# Altium schematic symbol library F280041.SchLib: 3 symbols
Pins are listed as number, name and electrical type; pins without a type are passive.

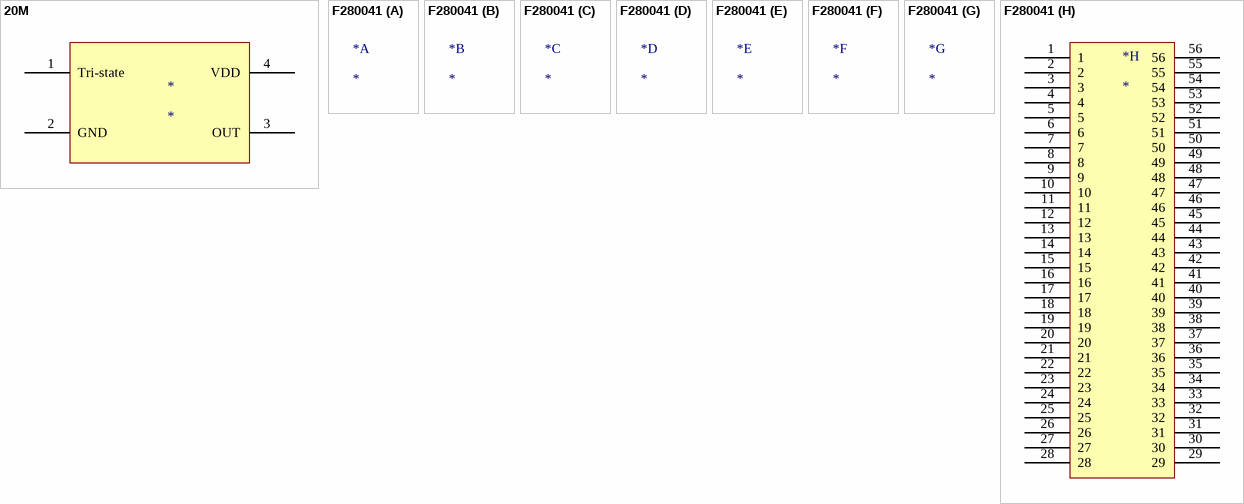
[diagram p0: symbols 20M to F280041]

## 20M
designator *
pins: 1 Tri-state, 2 GND, 3 OUT, 4 VDD

## F280041
designator *
F280041
part H pins: 1, 2, 3, 4, 5, 6, 7, 8, 9, 10, 11, 12, 13, 14, 15, 16, 17, 18, 19, 20, 21, 22, 23, 24, 25, 26, 27, 28, 29, 30, 31, 32, 33, 34, 35, 36, 37, 38, 39, 40, 41, 42, 43, 44, 45, 46, 47, 48, 49, 50, 51, 52, 53, 54, 55, 56

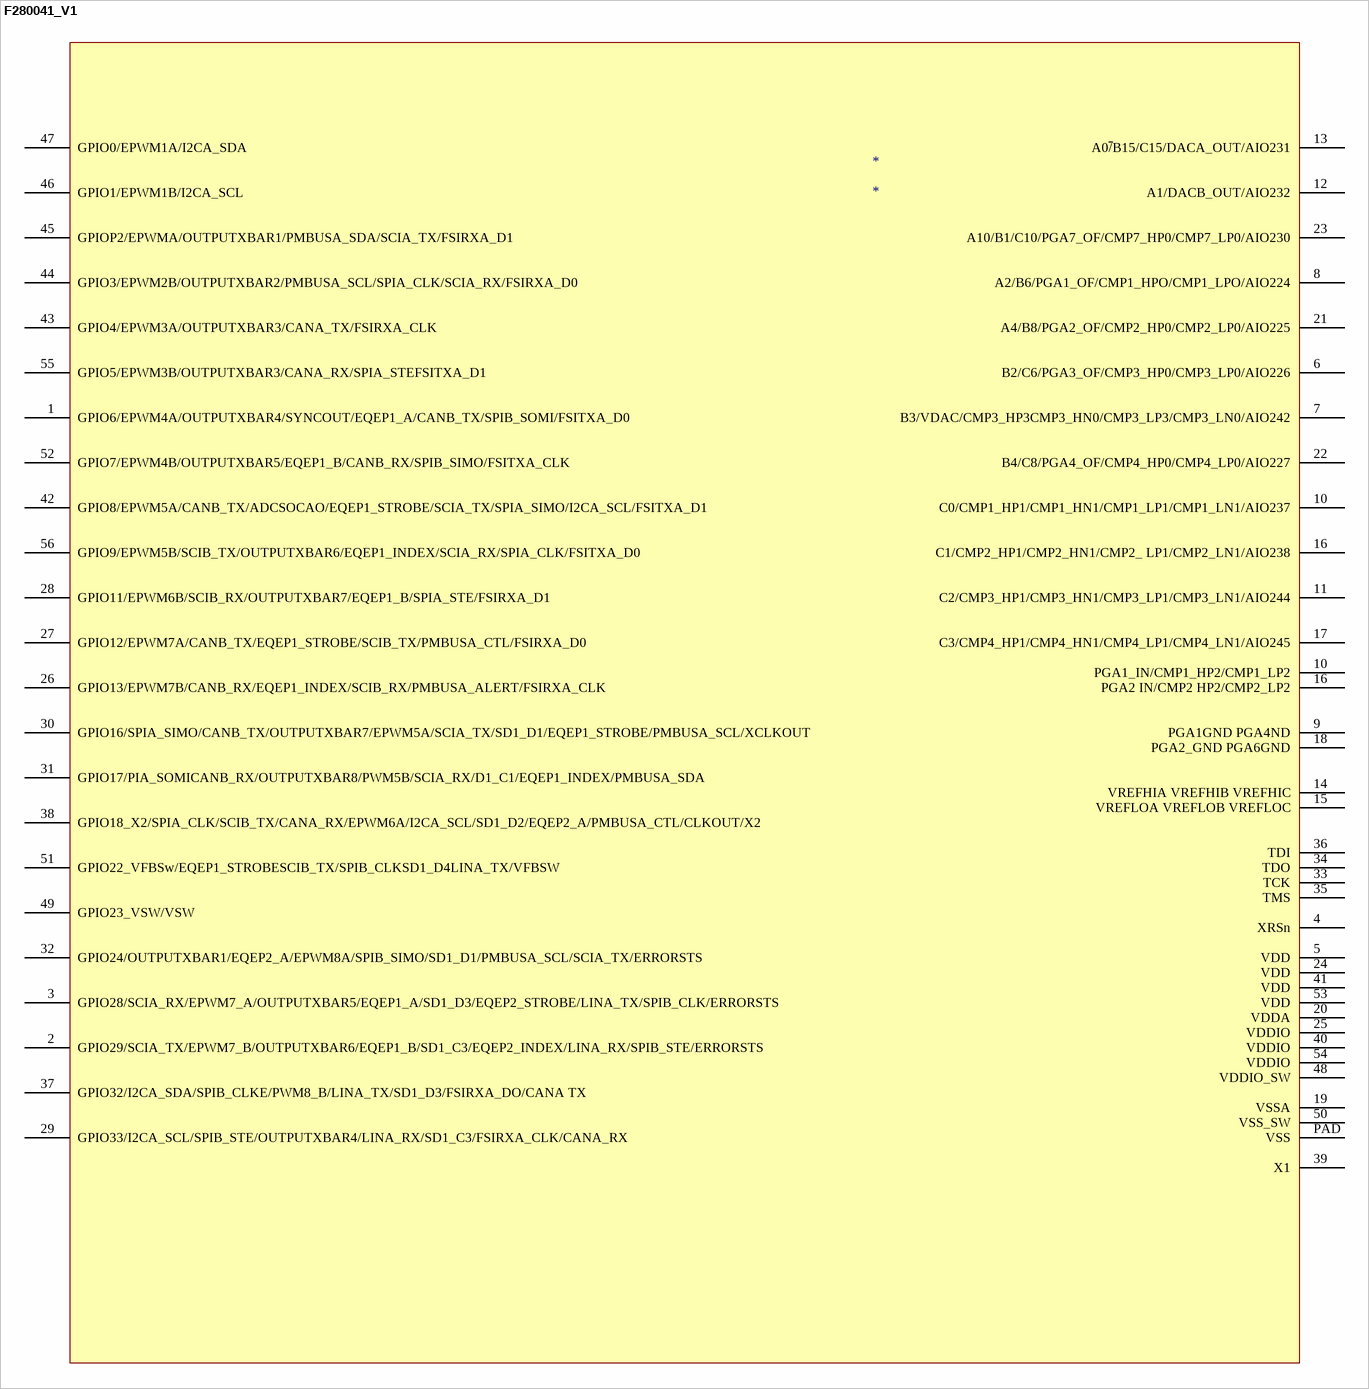
[diagram p1: symbol F280041_V1]

## F280041_V1
designator *
pins: 1 GPIO6/EPWM4A/OUTPUTXBAR4/SYNCOUT/EQEP1_A/CANB_TX/SPIB_SOMI/FSITXA_D0, 2 GPIO29/SCIA_TX/EPWM7_B/OUTPUTXBAR6/EQEP1_B/SD1_C3/EQEP2_INDEX/LINA_RX/SPIB_STE/ERRORSTS, 3 GPIO28/SCIA_RX/EPWM7_A/OUTPUTXBAR5/EQEP1_A/SD1_D3/EQEP2_STROBE/LINA_TX/SPIB_CLK/ERRORSTS, 4 XRSn, 5 VDD, 6 B2/C6/PGA3_OF/CMP3_HP0/CMP3_LP0/AIO226, 7 B3/VDAC/CMP3_HP3CMP3_HN0/CMP3_LP3/CMP3_LN0/AIO242, 8 A2/B6/PGA1_OF/CMP1_HPO/CMP1_LPO/AIO224, 9 PGA1GND PGA4ND, 10 C0/CMP1_HP1/CMP1_HN1/CMP1_LP1/CMP1_LN1/AIO237, 10 PGA1_IN/CMP1_HP2/CMP1_LP2, 11 C2/CMP3_HP1/CMP3_HN1/CMP3_LP1/CMP3_LN1/AIO244, 12 A1/DACB_OUT/AIO232, 13 A0~{/}B15/C15/DACA_OUT/AIO231, 14 VREFHIA VREFHIB VREFHIC, 15 VREFLOA VREFLOB VREFLOC, 16 C1/CMP2_HP1/CMP2_HN1/CMP2_ LP1/CMP2_LN1/AIO238, 16 PGA2 IN/CMP2 HP2/CMP2_LP2, 17 C3/CMP4_HP1/CMP4_HN1/CMP4_LP1/CMP4_LN1/AIO245, 18 PGA2_GND PGA6GND, 19 VSSA, 20 VDDA, 21 A4/B8/PGA2_OF/CMP2_HP0/CMP2_LP0/AIO225, 22 B4/C8/PGA4_OF/CMP4_HP0/CMP4_LP0/AIO227, 23 A10/B1/C10/PGA7_OF/CMP7_HP0/CMP7_LP0/AIO230, 24 VDD, 25 VDDIO, 26 GPIO13/EPWM7B/CANB_RX/EQEP1_INDEX/SCIB_RX/PMBUSA_ALERT/FSIRXA_CLK, 27 GPIO12/EPWM7A/CANB_TX/EQEP1_STROBE/SCIB_TX/PMBUSA_CTL/FSIRXA_D0, 28 GPIO11/EPWM6B/SCIB_RX/OUTPUTXBAR7/EQEP1_B/SPIA_STE/FSIRXA_D1, 29 GPIO33/I2CA_SCL/SPIB_STE/OUTPUTXBAR4/LINA_RX/SD1_C3/FSIRXA_CLK/CANA_RX, 30 GPIO16/SPIA_SIMO/CANB_TX/OUTPUTXBAR7/EPWM5A/SCIA_TX/SD1_D1/EQEP1_STROBE/PMBUSA_SCL/XCLKOUT, 31 GPIO17/PIA_SOMICANB_RX/OUTPUTXBAR8/PWM5B/SCIA_RX/D1_C1/EQEP1_INDEX/PMBUSA_SDA, 32 GPIO24/OUTPUTXBAR1/EQEP2_A/EPWM8A/SPIB_SIMO/SD1_D1/PMBUSA_SCL/SCIA_TX/ERRORSTS, 33 TCK, 34 TDO, 35 TMS, 36 TDI, 37 GPIO32/I2CA_SDA/SPIB_CLKE/PWM8_B/LINA_TX/SD1_D3/FSIRXA_DO/CANA TX, 38 GPIO18_X2/SPIA_CLK/SCIB_TX/CANA_RX/EPWM6A/I2CA_SCL/SD1_D2/EQEP2_A/PMBUSA_CTL/CLKOUT/X2, 39 X1, 40 VDDIO, 41 VDD, 42 GPIO8/EPWM5A/CANB_TX/ADCSOCAO/EQEP1_STROBE/SCIA_TX/SPIA_SIMO/I2CA_SCL/FSITXA_D1, 43 GPIO4/EPWM3A/OUTPUTXBAR3/CANA_TX/FSIRXA_CLK, 44 GPIO3/EPWM2B/OUTPUTXBAR2/PMBUSA_SCL/SPIA_CLK/SCIA_RX/FSIRXA_D0, 45 GPIOP2/EPWMA/OUTPUTXBAR1/PMBUSA_SDA/SCIA_TX/FSIRXA_D1, 46 GPIO1/EPWM1B/I2CA_SCL, 47 GPIO0/EPWM1A/I2CA_SDA, 48 VDDIO_SW, 49 GPIO23_VSW/VSW, 50 VSS_SW, 51 GPIO22_VFBSw/EQEP1_STROBESCIB_TX/SPIB_CLKSD1_D4LINA_TX/VFBSW, 52 GPIO7/EPWM4B/OUTPUTXBAR5/EQEP1_B/CANB_RX/SPIB_SIMO/FSITXA_CLK, 53 VDD, 54 VDDIO, 55 GPIO5/EPWM3B/OUTPUTXBAR3/CANA_RX/SPIA_STEFSITXA_D1, 56 GPIO9/EPWM5B/SCIB_TX/OUTPUTXBAR6/EQEP1_INDEX/SCIA_RX/SPIA_CLK/FSITXA_D0, PAD VSS